# Altium schematic symbol library NFD17E09SAFC1DA.SchLib: 1 symbol
Pins are listed as number, name and electrical type; pins without a type are passive.

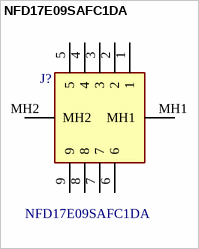
[diagram p0: symbol NFD17E09SAFC1DA]

## NFD17E09SAFC1DA
designator J?
D-Sub, 9 Pin Socket, Right Angle, Boardlocks #4-40 UNC Threaded Hole; Manufacturer_Name: Amphenol Communications Solutions; Geometry.Height: 12.93mm; Manufacturer_Part_Number: NFD17E09SAFC1DA; Mouser Part Number: *; Mouser Price/Stock: *; Arrow Part Number: *; Arrow Price/Stock: *; Datasheet Link: https://cdn.amphenol-cs.com/media/wysiwyg/files/drawing/p-nfd17-xxxsa-fc1d-a.pdf
footprint NFD17E09SAFC1DA
pins: 1, 2, 3, 4, 5, 6, 7, 8, 9, MH1, MH2